# EAGLE library part BQ24072 (library Simplex-ICs)
TI BQ24072 - Li battery charger and power path management ic
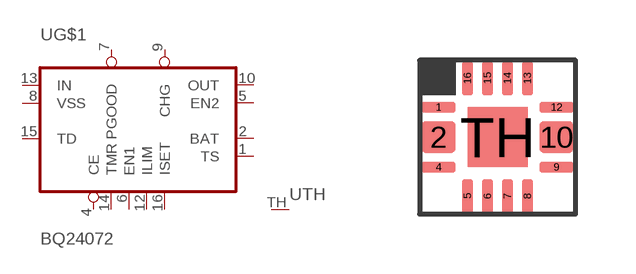
[diagram p4: symbol with the pads of S-PVQFN-N16; footprint S-PVQFN-N16]

Designator prefix -; gates G$1=BQ24072 TH=THERMAL

## BQ24072  [S-PVQFN-N16]
1  G$1:TS  in
2  G$1:BAT  in
4  G$1:CE
5  G$1:EN2  in
6  G$1:EN1
7  G$1:PGOOD
8  G$1:VSS  pwr
9  G$1:CHG
10  G$1:OUT  out
12  G$1:ILIM
13  G$1:IN  in
14  G$1:TMR
15  G$1:TD
16  G$1:ISET  in
TH  TH:TH  pas

## Footprint S-PVQFN-N16 (pad centres in mm)
DRK (S-PDSO-N10) Source: www.ti.com .. bq27010.pdf changed 2011-11-09
smd 0.85 x 0.28: 1 -0.725,2.225; 4 -0.725,0.725; 9 2.225,0.725; 12 2.225,2.225
smd 0.85 x 0.78: 2 -0.725,1.475; 10 2.225,1.475
smd 0.28 x 0.85: 5 0,0; 6 0.5,0; 7 1,0; 8 1.5,0; 13 1.5,2.95; 14 1,2.95; 15 0.5,2.95; 16 0,2.95
smd 1.5 x 1.5: TH 0.75,1.475